# EAGLE library part TM4C123GH6PMI7R (library EE445L)
MCU 32-bit ARM Cortex M4F RISC 256KB Flash 1.2V/3.3V 64-Pin LQFP T/R Source: Datasheet <https://www.ti.com/lit/ds/symlink/tm4c123gh6pm.pdf?ts=1600428549278&ref_url=https%3A%2F%2Fwww.ti.com%2Fstore%2Fti%2Fen%2Fp%2Fproduct%2F%3Fp%3DTM4C123GH6PMI7%26keyMatch%3DTM4C123GH6PMI7R%26tisearch%3DSearch-EN-everything%26u>
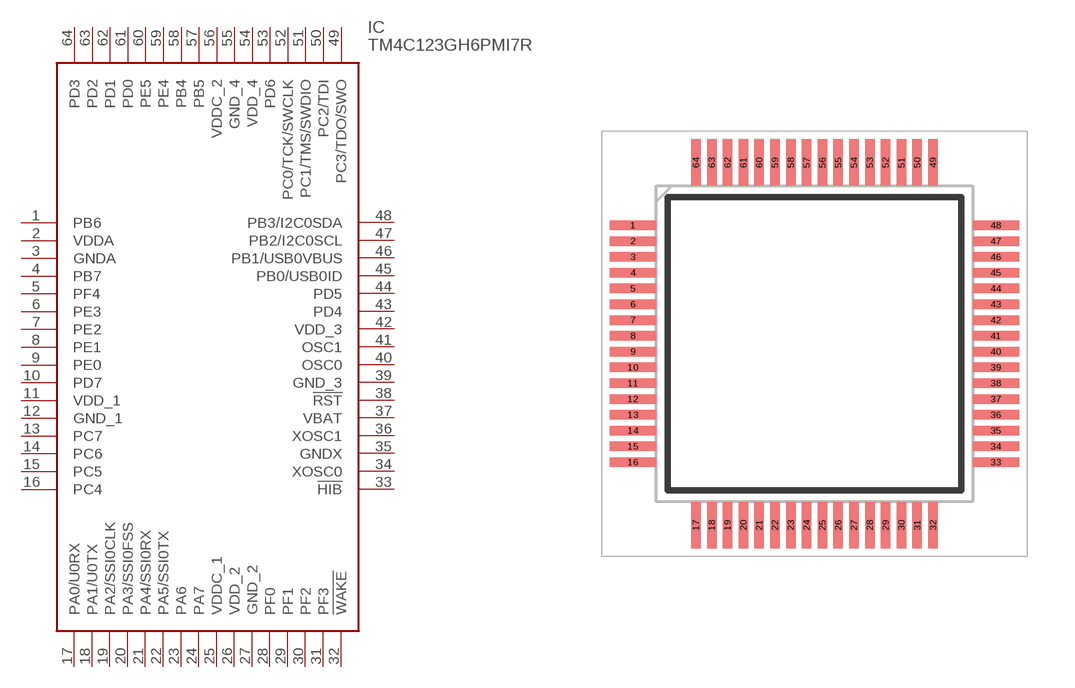
[diagram p28: symbol with the pads of QFP50P1200X1200X160-64N; footprint QFP50P1200X1200X160-64N]

Designator prefix IC

## TM4C123GH6PMI7R (ARROW_PART_NUMBER: TM4C123GH6PMI7R; ARROW_PRICE-STOCK: https://www.arrow.com/en/products/tm4c123gh6pmi7r/texas-instruments; DESCRIPTION: MCU 32-bit ARM Cortex M4F RISC 256KB Flash 1.2V/3.3V 64-Pin LQFP T/R; HEIGHT: 1.6mm; MANUFACTURER_NAME: Texas Instruments; MANUFACTURER_PART_NUMBER: TM4C123GH6PMI7R; MOUSER_PART_NUMBER: 595-TM4C123GH6PMI7R; MOUSER_PRICE-STOCK: https://www.mouser.co.uk/ProductDetail/Texas-Instruments/TM4C123GH6PMI7R?qs=m%2F7bTylgptdzXPbAJnovIA%3D%3D)  [QFP50P1200X1200X160-64N]
1  PB6
2  VDDA
3  GNDA
4  PB7
5  PF4
6  PE3
7  PE2
8  PE1
9  PE0
10  PD7
11  VDD_1
12  GND_1
13  PC7
14  PC6
15  PC5
16  PC4
17  PA0/U0RX
18  PA1/U0TX
19  PA2/SSI0CLK
20  PA3/SSI0FSS
21  PA4/SSI0RX
22  PA5/SSI0TX
23  PA6
24  PA7
25  VDDC_1
26  VDD_2
27  GND_2
28  PF0
29  PF1
30  PF2
31  PF3
32  !WAKE
33  !HIB
34  XOSC0
35  GNDX
36  XOSC1
37  VBAT
38  !RST
39  GND_3
40  OSC0
41  OSC1
42  VDD_3
43  PD4
44  PD5
45  PB0/USB0ID
46  PB1/USB0VBUS
47  PB2/I2C0SCL
48  PB3/I2C0SDA
49  PC3/TDO/SWO
50  PC2/TDI
51  PC1/TMS/SWDIO
52  PC0/TCK/SWCLK
53  PD6
54  VDD_4
55  GND_4
56  VDDC_2
57  PB5
58  PB4
59  PE4
60  PE5
61  PD0
62  PD1
63  PD2
64  PD3

## Footprint QFP50P1200X1200X160-64N (pad centres in mm)
PM (S-PQFP-G64)
smd 1.475 x 0.3: 1 -5.738,3.75; 2 -5.738,3.25; 3 -5.738,2.75; 4 -5.738,2.25; 5 -5.738,1.75; 6 -5.738,1.25; 7 -5.738,0.75; 8 -5.738,0.25; 9 -5.738,-0.25; 10 -5.738,-0.75; 11 -5.738,-1.25; 12 -5.738,-1.75; 13 -5.738,-2.25; 14 -5.738,-2.75; 15 -5.738,-3.25; 16 -5.738,-3.75; 33 5.738,-3.75; 34 5.738,-3.25; 35 5.738,-2.75; 36 5.738,-2.25; 37 5.738,-1.75; 38 5.738,-1.25; 39 5.738,-0.75; 40 5.738,-0.25; 41 5.738,0.25; 42 5.738,0.75; 43 5.738,1.25; 44 5.738,1.75; 45 5.738,2.25; 46 5.738,2.75; 47 5.738,3.25; 48 5.738,3.75
smd 0.3 x 1.475: 17 -3.75,-5.738; 18 -3.25,-5.738; 19 -2.75,-5.738; 20 -2.25,-5.738; 21 -1.75,-5.738; 22 -1.25,-5.738; 23 -0.75,-5.738; 24 -0.25,-5.738; 25 0.25,-5.738; 26 0.75,-5.738; 27 1.25,-5.738; 28 1.75,-5.738; 29 2.25,-5.738; 30 2.75,-5.738; 31 3.25,-5.738; 32 3.75,-5.738; 49 3.75,5.738; 50 3.25,5.738; 51 2.75,5.738; 52 2.25,5.738; 53 1.75,5.738; 54 1.25,5.738; 55 0.75,5.738; 56 0.25,5.738; 57 -0.25,5.738; 58 -0.75,5.738; 59 -1.25,5.738; 60 -1.75,5.738; 61 -2.25,5.738; 62 -2.75,5.738; 63 -3.25,5.738; 64 -3.75,5.738